# Altium footprint library Connector_FFC-FPC.PcbLib: 184 footprints (part 12 of 12)
Each footprint in its own frame and in the unit in brackets; x right, y up, seen from the top. Pads: shape width x height; smd on the part's side, far side on the other; paste and mask are expansions set on the pad; w line width, h text height; cw(c..) or ccw(c..) is an arc to the next point about the centre after c.
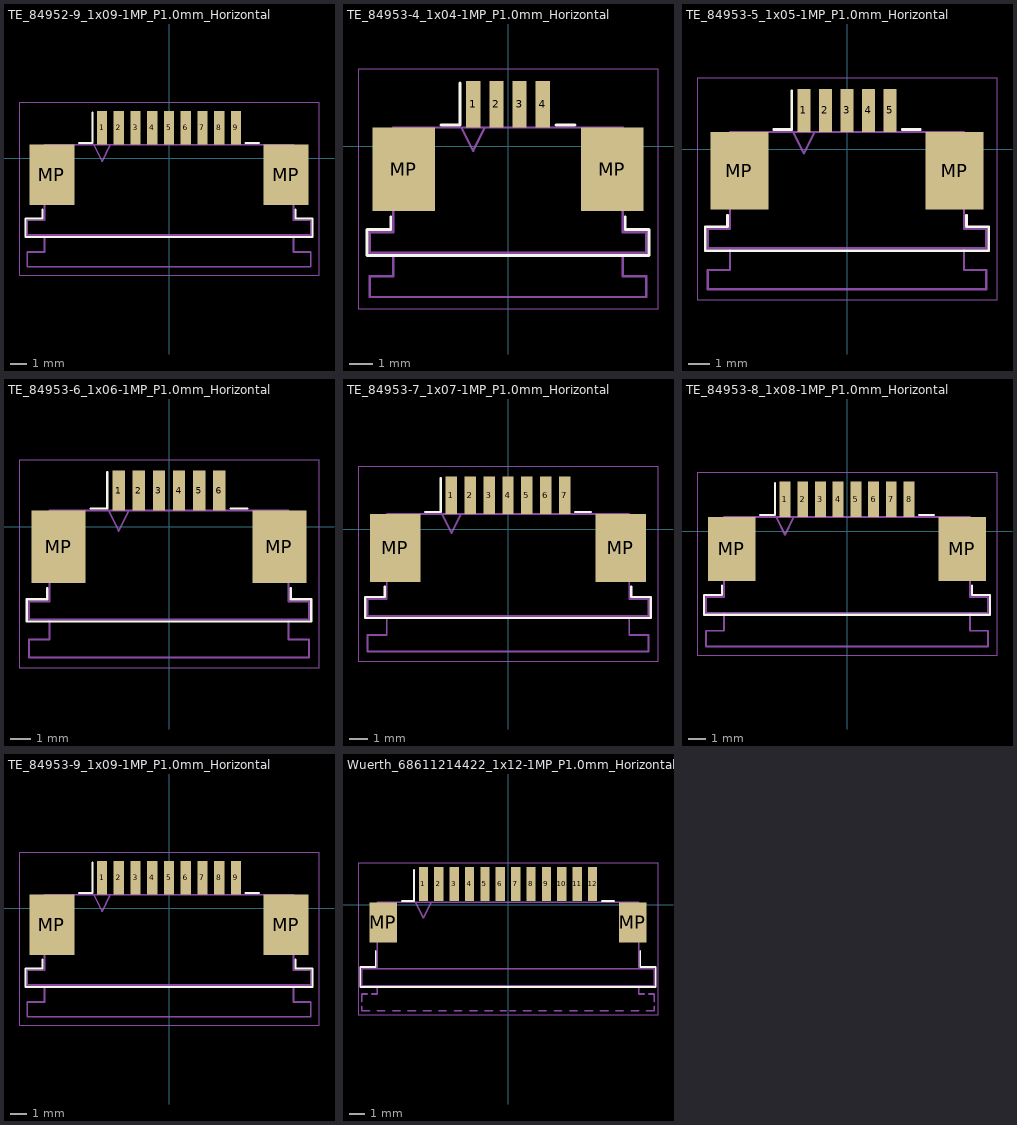
[diagram p11: the footprints below, top view; thin cyan lines are the x and y axes]

## TE_84952-9_1x09-1MP_P1.0mm_Horizontal [mm]
pads (11):
  rect 0.61x2 smd: 1(-4,1.8) 2(-3,1.8) 3(-2,1.8) 4(-1,1.8) 5(0,1.8) 6(1,1.8) 7(2,1.8) 8(3,1.8) 9(4,1.8)
  rect 2.68x3.6 smd: MP(-6.99,-1) MP(6.99,-1)
F.SilkS:
  lines w0.12: -7.545,-3.06 -7.545,-3.6 -8.57,-3.6 -8.57,-4.71 8.57,-4.71 8.57,-3.6 7.545,-3.6 7.545,-3.06 ; -5.39,0.91 -4.565,0.91 -4.565,2.71 ; 4.565,0.91 5.39,0.91
F.CrtYd:
  lines w0.05: -8.96,-7 -8.96,3.3 8.96,3.3 8.96,-7 -8.96,-7
F.Fab:
  lines w0.1: -7.435,-4.6 -7.435,-5.61 -8.46,-5.61 -8.46,-6.5 8.46,-6.5 8.46,-5.61 7.435,-5.61 7.435,-4.6 ; -4.5,0.8 -4,-0.2 -3.5,0.8 ; -8.46,-4.6 -8.46,-3.71 -7.435,-3.71 -7.435,0.8 7.435,0.8 7.435,-3.71 8.46,-3.71 8.46,-4.6 -8.46,-4.6
  text "'.Designator'" at -4.047,-2.74 h1

## TE_84953-4_1x04-1MP_P1.0mm_Horizontal [mm]
pads (6):
  rect 0.61x2 smd: 1(-1.5,1.8) 2(-0.5,1.8) 3(0.5,1.8) 4(1.5,1.8)
  rect 2.68x3.6 smd: MP(-4.49,-1) MP(4.49,-1)
F.SilkS:
  lines w0.12: -5.045,-3.06 -5.045,-3.6 -6.07,-3.6 -6.07,-4.71 6.07,-4.71 6.07,-3.6 5.045,-3.6 5.045,-3.06 ; -2.89,0.91 -2.065,0.91 -2.065,2.71 ; 2.065,0.91 2.89,0.91
F.CrtYd:
  lines w0.05: -6.46,-7 -6.46,3.3 6.46,3.3 6.46,-7 -6.46,-7
F.Fab:
  lines w0.1: -4.935,-4.6 -4.935,-5.61 -5.96,-5.61 -5.96,-6.5 5.96,-6.5 5.96,-5.61 4.935,-5.61 4.935,-4.6 ; -2,0.8 -1.5,-0.2 -1,0.8 ; -5.96,-4.6 5.96,-4.6 5.96,-3.71 4.935,-3.71 4.935,0.8 -4.935,0.8 -4.935,-3.71 -5.96,-3.71 -5.96,-4.6
  text "'.Designator'" at -4.047,-2.74 h1

## TE_84953-5_1x05-1MP_P1.0mm_Horizontal [mm]
pads (7):
  rect 0.61x2 smd: 1(-2,1.8) 2(-1,1.8) 3(0,1.8) 4(1,1.8) 5(2,1.8)
  rect 2.68x3.6 smd: MP(-4.99,-1) MP(4.99,-1)
F.SilkS:
  lines w0.12: -5.545,-3.06 -5.545,-3.6 -6.57,-3.6 -6.57,-4.71 6.57,-4.71 6.57,-3.6 5.545,-3.6 5.545,-3.06 ; -3.39,0.91 -2.565,0.91 -2.565,2.71 ; 2.565,0.91 3.39,0.91
F.CrtYd:
  lines w0.05: -6.96,-7 -6.96,3.3 6.96,3.3 6.96,-7 -6.96,-7
F.Fab:
  lines w0.1: -5.435,-4.6 -5.435,-5.61 -6.46,-5.61 -6.46,-6.5 6.46,-6.5 6.46,-5.61 5.435,-5.61 5.435,-4.6 ; -2.5,0.8 -2,-0.2 -1.5,0.8 ; -6.46,-4.6 -6.46,-3.71 -5.435,-3.71 -5.435,0.8 5.435,0.8 5.435,-3.71 6.46,-3.71 6.46,-4.6 -6.46,-4.6
  text "'.Designator'" at -4.047,-2.74 h1

## TE_84953-6_1x06-1MP_P1.0mm_Horizontal [mm]
pads (8):
  rect 0.61x2 smd: 1(-2.5,1.8) 2(-1.5,1.8) 3(-0.5,1.8) 4(0.5,1.8) 5(1.5,1.8) 6(2.5,1.8)
  rect 2.68x3.6 smd: MP(-5.49,-1) MP(5.49,-1)
F.SilkS:
  lines w0.12: -6.045,-3.06 -6.045,-3.6 -7.07,-3.6 -7.07,-4.71 7.07,-4.71 7.07,-3.6 6.045,-3.6 6.045,-3.06 ; -3.89,0.91 -3.065,0.91 -3.065,2.71 ; 3.065,0.91 3.89,0.91
F.CrtYd:
  lines w0.05: -7.46,-7 -7.46,3.3 7.46,3.3 7.46,-7 -7.46,-7
F.Fab:
  lines w0.1: -5.935,-4.6 -5.935,-5.61 -6.96,-5.61 -6.96,-6.5 6.96,-6.5 6.96,-5.61 5.935,-5.61 5.935,-4.6 ; -3,0.8 -2.5,-0.2 -2,0.8 ; -6.96,-4.6 -6.96,-3.71 -5.935,-3.71 -5.935,0.8 5.935,0.8 5.935,-3.71 6.96,-3.71 6.96,-4.6 -6.96,-4.6
  text "'.Designator'" at -4.047,-2.74 h1

## TE_84953-7_1x07-1MP_P1.0mm_Horizontal [mm]
pads (9):
  rect 0.61x2 smd: 1(-3,1.8) 2(-2,1.8) 3(-1,1.8) 4(0,1.8) 5(1,1.8) 6(2,1.8) 7(3,1.8)
  rect 2.68x3.6 smd: MP(-5.99,-1) MP(5.99,-1)
F.SilkS:
  lines w0.12: -6.545,-3.06 -6.545,-3.6 -7.57,-3.6 -7.57,-4.71 7.57,-4.71 7.57,-3.6 6.545,-3.6 6.545,-3.06 ; -4.39,0.91 -3.565,0.91 -3.565,2.71 ; 3.565,0.91 4.39,0.91
F.CrtYd:
  lines w0.05: -7.96,-7 -7.96,3.3 7.96,3.3 7.96,-7 -7.96,-7
F.Fab:
  lines w0.1: -6.435,-4.6 -6.435,-5.61 -7.46,-5.61 -7.46,-6.5 7.46,-6.5 7.46,-5.61 6.435,-5.61 6.435,-4.6 ; -3.5,0.8 -3,-0.2 -2.5,0.8 ; -7.46,-4.6 7.46,-4.6 7.46,-3.71 6.435,-3.71 6.435,0.8 -6.435,0.8 -6.435,-3.71 -7.46,-3.71 -7.46,-4.6
  text "'.Designator'" at -4.047,-2.74 h1

## TE_84953-8_1x08-1MP_P1.0mm_Horizontal [mm]
pads (10):
  rect 0.61x2 smd: 1(-3.5,1.8) 2(-2.5,1.8) 3(-1.5,1.8) 4(-0.5,1.8) 5(0.5,1.8) 6(1.5,1.8) 7(2.5,1.8) 8(3.5,1.8)
  rect 2.68x3.6 smd: MP(-6.49,-1) MP(6.49,-1)
F.SilkS:
  lines w0.12: -7.045,-3.06 -7.045,-3.6 -8.07,-3.6 -8.07,-4.71 8.07,-4.71 8.07,-3.6 7.045,-3.6 7.045,-3.06 ; -4.89,0.91 -4.065,0.91 -4.065,2.71 ; 4.065,0.91 4.89,0.91
F.CrtYd:
  lines w0.05: -8.46,-7 8.46,-7 8.46,3.3 -8.46,3.3 -8.46,-7
F.Fab:
  lines w0.1: -6.935,-4.6 -6.935,-5.61 -7.96,-5.61 -7.96,-6.5 7.96,-6.5 7.96,-5.61 6.935,-5.61 6.935,-4.6 ; -4,0.8 -3.5,-0.2 -3,0.8 ; -7.96,-4.6 -7.96,-3.71 -6.935,-3.71 -6.935,0.8 6.935,0.8 6.935,-3.71 7.96,-3.71 7.96,-4.6 -7.96,-4.6
  text "'.Designator'" at -4.047,-2.74 h1

## TE_84953-9_1x09-1MP_P1.0mm_Horizontal [mm]
pads (11):
  rect 0.61x2 smd: 1(-4,1.8) 2(-3,1.8) 3(-2,1.8) 4(-1,1.8) 5(0,1.8) 6(1,1.8) 7(2,1.8) 8(3,1.8) 9(4,1.8)
  rect 2.68x3.6 smd: MP(-6.99,-1) MP(6.99,-1)
F.SilkS:
  lines w0.12: -7.545,-3.06 -7.545,-3.6 -8.57,-3.6 -8.57,-4.71 8.57,-4.71 8.57,-3.6 7.545,-3.6 7.545,-3.06 ; -5.39,0.91 -4.565,0.91 -4.565,2.71 ; 4.565,0.91 5.39,0.91
F.CrtYd:
  lines w0.05: -8.96,-7 -8.96,3.3 8.96,3.3 8.96,-7 -8.96,-7
F.Fab:
  lines w0.1: -7.435,-4.6 -7.435,-5.61 -8.46,-5.61 -8.46,-6.5 8.46,-6.5 8.46,-5.61 7.435,-5.61 7.435,-4.6 ; -4.5,0.8 -4,-0.2 -3.5,0.8 ; -8.46,-4.6 8.46,-4.6 8.46,-3.71 7.435,-3.71 7.435,0.8 -7.435,0.8 -7.435,-3.71 -8.46,-3.71 -8.46,-4.6
  text "'.Designator'" at -4.047,-2.74 h1

## Wuerth_68611214422_1x12-1MP_P1.0mm_Horizontal [mm]
pads (14):
  rect 0.6x2.2 smd: 1(-5.5,1.35) 2(-4.5,1.35) 3(-3.5,1.35) 4(-2.5,1.35) 5(-1.5,1.35) 6(-0.5,1.35) 7(0.5,1.35) 8(1.5,1.35) 9(2.5,1.35) 10(3.5,1.35) 11(4.5,1.35) 12(5.5,1.35)
  rect 1.8x2.6 smd: MP(-8.1,-1.15) MP(8.1,-1.15)
F.SilkS:
  lines w0.12: -8.6,-3 -8.6,-4.05 -9.6,-4.05 -9.6,-5.35 9.6,-5.35 9.6,-4.05 8.6,-4.05 8.6,-3 ; -6.9,0.25 -6.1,0.25 -6.1,2.25 ; 6.1,0.25 6.9,0.25
F.CrtYd:
  lines w0.05: -9.75,-7.15 -9.75,2.7 9.75,2.7 9.75,-7.15 -9.75,-7.15
F.Fab:
  lines w0.1: -9.5,-6.6 -9.5,-6.9 -9,-6.9 ; -9.5,-6.3 -9.5,-5.8 -9.15,-5.8 ; -9.5,-4.16 -9.5,-5.25 9.5,-5.25 9.5,-4.16 ; -9.5,-4.15 9.5,-4.15 ; -8.85,-5.8 -8.5,-5.8 -8.5,-5.25 ; -8.5,-6.9 -8,-6.9 ; -8.5,-4.15 -8.5,0.15 8.5,0.15 8.5,-4.15 ; -7.5,-6.9 -7,-6.9 ; -6.5,-6.9 -6,-6.9 ; -6,0.15 -5.5,-0.85 -5,0.15 ; -5.5,-6.9 -5,-6.9 ; -4.5,-6.9 -4,-6.9 ; -3.5,-6.9 -3,-6.9 ; -2.5,-6.9 -2,-6.9 ; -1.5,-6.9 -1,-6.9 ; -0.5,-6.9 -0.1,-6.9 ; 0.1,-6.9 0.5,-6.9 ; 1,-6.9 1.5,-6.9 ; 2,-6.9 2.5,-6.9 ; 3,-6.9 3.5,-6.9 ; 4,-6.9 4.5,-6.9 ; 5,-6.9 5.5,-6.9 ; 6,-6.9 6.5,-6.9 ; 7,-6.9 7.5,-6.9 ; 8,-6.9 8.5,-6.9 ; 8.5,-5.25 8.5,-5.8 8.85,-5.8 ; 9,-6.9 9.5,-6.9 9.5,-6.6 ; 9.15,-5.8 9.5,-5.8 9.5,-6.3
  text "'.Designator'" at -4.047,-3.19 h1